# Altium schematic symbol library RcMPPTLib.SchLib: 72 symbols
Pins are listed as number, name and electrical type; pins without a type are passive.

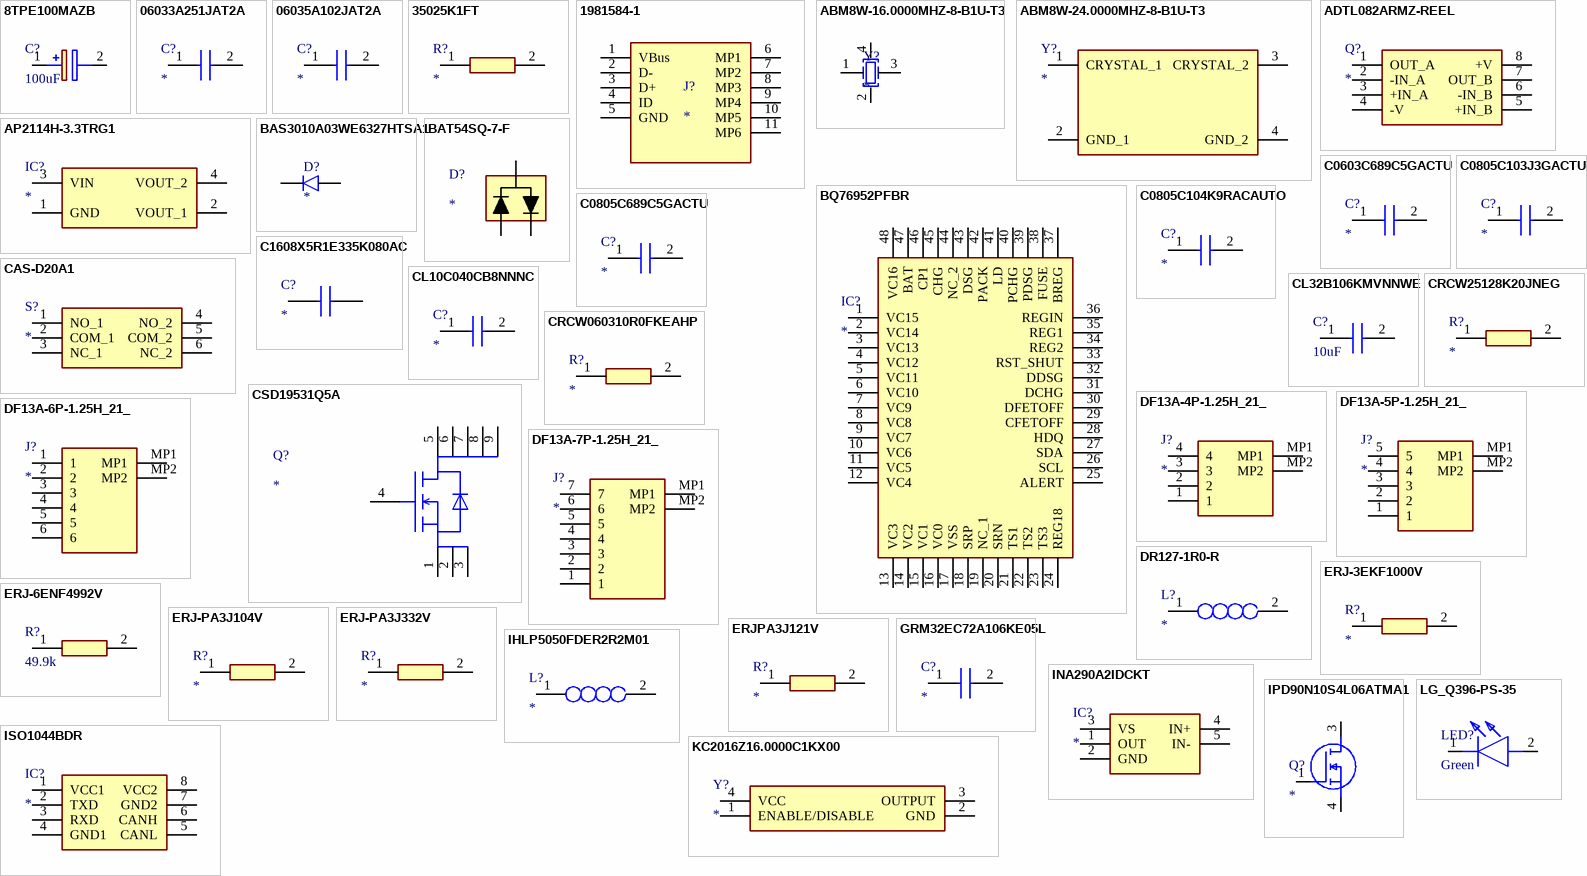
[diagram p0: symbols 8TPE100MAZB to LG_Q396-PS-35]

## 8TPE100MAZB
designator C?, comment 100uF
Capacitor Polarised; Manufacturer_Name: Panasonic; Manufacturer_Part_Number: 8TPE100MAZB; Datasheet Link: http://uk.rs-online.com/web/p/products/7887374; Height: 2mm; Arrow Part Number: 8TPE100MAZB; Arrow Price/Stock: https://www.arrow.com/en/products/8tpe100mazb/panasonic; Mouser Part Number: 667-8TPE100MAZB; Mouser Price/Stock: https://www.mouser.co.uk/ProductDetail/Panasonic/8TPE100MAZB?qs=OE1iw1LrrPHKTwwfsidxgA%3D%3D
footprint CAPPM3528X200N
pins: 1 +, 2 -

## 06033A251JAT2A
designator C?
Capacitor; Manufacturer_Name: AVX; Manufacturer_Part_Number: 06033A251JAT2A; Datasheet Link: https://componentsearchengine.com/Datasheets/1/06031A100FAT2A.pdf; Height: 0.9mm; Mouser Part Number: 581-06033A251JAT2A; Mouser Price/Stock: https://www.mouser.com/Search/Refine.aspx?Keyword=581-06033A251JAT2A
footprint CAPC1608X90N
pins: 1, 2

## 06035A102JAT2A
designator C?
Capacitor; Manufacturer_Name: AVX; Manufacturer_Part_Number: 06035A102JAT2A; Datasheet Link: http://datasheets.avx.com/C0GNP0-Dielectric.pdf; Height: 0.9mm; Mouser Part Number: 581-06035A102J; Mouser Price/Stock: https://www.mouser.co.uk/ProductDetail/AVX/06035A102JAT2A?qs=I5rfTV0A4wGLF2%252B95sWyMg%3D%3D; Arrow Part Number: 06035A102JAT2A; Arrow Price/Stock: https://www.arrow.com/en/products/06035a102jat2a/avx
footprint CAPC1608X90N
pins: 1, 2

## 35025K1FT
designator R?
Resistor; Manufacturer_Name: TE Connectivity; Manufacturer_Part_Number: 35025K1FT; Datasheet Link: https://componentsearchengine.com/Datasheets/2/35025K1FT.pdf; Height: 1.2mm; Mouser Part Number: 279-35025K1FT; Mouser Price/Stock: https://www.mouser.co.uk/ProductDetail/TE-Connectivity-CGS/35025K1FT?qs=gZXFycFWdAMaIId5apsrAA%3D%3D
footprint RESC5025X120N
pins: 1, 2

## 1981584-1
designator J?
Connector; Manufacturer_Name: TE Connectivity; Manufacturer_Part_Number: 1981584-1; Datasheet Link: http://www.te.com/commerce/DocumentDelivery/DDEController?Action=showdoc&DocId=Customer+Drawing%7F1981584%7FD2%7Fpdf%7FEnglish%7FENG_CD_1981584_D2.pdf%7F1981584-1; Height: 3mm; Arrow Part Number: 1981584-1; Arrow Price/Stock: https://www.arrow.com/en/products/1981584-1/te-connectivity; Mouser Part Number: 571-1981584-1; Mouser Price/Stock: https://www.mouser.co.uk/ProductDetail/TE-Connectivity/1981584-1?qs=ozkTL%2FUej0TLYxjQLPnd2Q%3D%3D
footprint 19815841
pins: 1 VBus, 2 D-, 3 D+, 4 ID, 5 GND, 6 MP1, 7 MP2, 8 MP3, 9 MP4, 10 MP5, 11 MP6

## ABM8W-16.0000MHZ-8-B1U-T3
designator Y?
Crystal or Oscillator; Manufacturer_Name: ABRACON; Manufacturer_Part_Number: ABM8W-16.0000MHZ-8-B1U-T3; Datasheet Link: https://abracon.com/Resonators/ABM8W.pdf; Height: 0.75mm; Mouser Part Number: 815-8W16-8B1UT; Mouser Price/Stock: https://www.mouser.co.uk/ProductDetail/ABRACON/ABM8W-160000MHZ-8-B1U-T3?qs=5aG0NVq1C4zuwTHNFUIcqw%3D%3D; Arrow Part Number: ABM8W-16.0000MHZ-8-B1U-T3; Arrow Price/Stock: https://www.arrow.com/en/products/abm8w-16.0000mhz-8-b1u-t3/abracon
footprint ABM8W160000MHZ8B1UT3
pins: 1 OSC1, 2 OSC2, 3, 4

## ABM8W-24.0000MHZ-8-B1U-T3
designator Y?
Crystal or Oscillator; Manufacturer_Name: ABRACON; Manufacturer_Part_Number: ABM8W-24.0000MHZ-8-B1U-T3; Datasheet Link: https://www.mouser.com/datasheet/2/3/ABM8W-1107617.pdf; Height: 0.75mm; Arrow Part Number: ABM8W-24.0000MHZ-8-B1U-T3; Arrow Price/Stock: https://www.arrow.com/en/products/abm8w-24.0000mhz-8-b1u-t3/abracon; Mouser Part Number: 815-8W24-8B1UT; Mouser Price/Stock: https://www.mouser.com/Search/Refine.aspx?Keyword=815-8W24-8B1UT
footprint ABM8W240000MHZ8B1UT3
pins: 1 CRYSTAL_1, 2 GND_1, 3 CRYSTAL_2, 4 GND_2

## ADTL082ARMZ-REEL
designator Q?
Transistor; Manufacturer_Name: Analog Devices; Manufacturer_Part_Number: ADTL082ARMZ-REEL; Datasheet Link: http://www.analog.com/en/products/amplifiers/operational-amplifiers/jfet-input-amplifiers/adtl082.html; Height: 1.1mm; Mouser Part Number: 584-ADTL082ARMZ-R; Mouser Price/Stock: https://www.mouser.co.uk/ProductDetail/Analog-Devices/ADTL082ARMZ-REEL?qs=WIvQP4zGangWep10KPxZ3g%3D%3D; Arrow Part Number: ADTL082ARMZ-REEL; Arrow Price/Stock: https://www.arrow.com/en/products/adtl082armz-reel/analog-devices
footprint SOP65P490X110-8N
pins: 1 OUT_A, 2 -IN_A, 3 +IN_A, 4 -V, 5 +IN_B, 6 -IN_B, 7 OUT_B, 8 +V

## AP2114H-3.3TRG1
designator IC?
Integrated Circuit; Manufacturer_Name: Diodes Inc.; Manufacturer_Part_Number: AP2114H-3.3TRG1; Datasheet Link: http://uk.rs-online.com/web/p/products/8283528; Height: 1.8mm; Arrow Part Number: AP2114H-3.3TRG1; Arrow Price/Stock: https://www.arrow.com/en/products/ap2114h-3.3trg1/diodes-incorporated; Mouser Part Number: 621-AP2114H-3.3TRG1; Mouser Price/Stock: https://www.mouser.co.uk/ProductDetail/Diodes-Incorporated/AP2114H-33TRG1?qs=x6A8l6qLYDDSG%2FfwzcsOhw%3D%3D
footprint SOT230P700X180-4N
pins: 1 GND, 2 VOUT_1, 3 VIN, 4 VOUT_2

## BAS3010A03WE6327HTSA1
designator D?
Diode; Manufacturer_Name: Infineon; Manufacturer_Part_Number: BAS3010A03WE6327HTSA1; Datasheet Link: https://www.infineon.com/dgdl/Infineon-BAS3010ASERIES-DS-v01_01-en.pdf?fileId=db3a30431ddc9372011dfbc50f231c06; Height: 1.1mm; Arrow Part Number: BAS3010A03WE6327HTSA1; Arrow Price/Stock: https://www.arrow.com/en/products/bas3010a03we6327htsa1/infineon-technologies-ag; Mouser Part Number: 726-BAS3010A-03WE6; Mouser Price/Stock: https://www.mouser.co.uk/ProductDetail/Infineon-Technologies/BAS3010A03WE6327HTSA1?qs=K00xGehIljtEbk1%252B2pLZ%252BQ%3D%3D
footprint SOD2513X110N
pins: 1 K, 2 A

## BAT54SQ-7-F
designator D?
Schottky Diode; Manufacturer_Name: Diodes Inc.; Manufacturer_Part_Number: BAT54SQ-7-F; Datasheet Link: https://www.arrow.com/en/products/bat54sq-7-f/diodes-incorporated; Height: 1.1mm; Mouser Part Number: 621-BAT54SQ-7-F; Mouser Price/Stock: https://www.mouser.co.uk/ProductDetail/Diodes-Incorporated/BAT54SQ-7-F/?qs=vdQOMtKMWaAKaYcjx11stw%3D%3D; Arrow Part Number: BAT54SQ-7-F; Arrow Price/Stock: https://www.arrow.com/en/products/bat54sq-7-f/diodes-incorporated
footprint SOT96P240X110-3N
pins: 1 A, 2 K, 3 A/K

## BQ76952PFBR
designator IC?
Integrated Circuit; Manufacturer_Name: Texas Instruments; Manufacturer_Part_Number: BQ76952PFBR; Datasheet Link: https://www.ti.com/lit/ds/symlink/bq76952.pdf?ts=1602524050348&ref_url=https%253A%252F%252Fwww.ti.com%252Fproduct%252FBQ76952%253FkeyMatch%253DBQ76952PFBR%2526tisearch%253DSearch-EN-everything%2526usecase%253DOPN; Height: 1.2mm
footprint QFP50P900X900X120-48N
pins: 1 VC15, 2 VC14, 3 VC13, 4 VC12, 5 VC11, 6 VC10, 7 VC9, 8 VC8, 9 VC7, 10 VC6, 11 VC5, 12 VC4, 13 VC3, 14 VC2, 15 VC1, 16 VC0, 17 VSS, 18 SRP, 19 NC_1, 20 SRN, 21 TS1, 22 TS2, 23 TS3, 24 REG18, 25 ALERT, 26 SCL, 27 SDA, 28 HDQ, 29 CFETOFF, 30 DFETOFF, 31 DCHG, 32 DDSG, 33 RST_SHUT, 34 REG2, 35 REG1, 36 REGIN, 37 BREG, 38 FUSE, 39 PDSG, 40 PCHG, 41 LD, 42 PACK, 43 DSG, 44 NC_2, 45 CHG, 46 CP1, 47 BAT, 48 VC16

## C0603C689C5GACTU
designator C?
Capacitor; Manufacturer_Name: Kemet; Manufacturer_Part_Number: C0603C689C5GACTU; Datasheet Link: http://docs-emea.rs-online.com/webdocs/116e/0900766b8116eaf8.pdf; Height: 0.87mm; Arrow Part Number: C0603C689C5GACTU; Arrow Price/Stock: https://www.arrow.com/en/products/c0603c689c5gactu/kemet-corporation; Mouser Part Number: 80-C0603C689C5G; Mouser Price/Stock: https://www.mouser.com/Search/Refine.aspx?Keyword=80-C0603C689C5G
footprint CAPC1608X87N
pins: 1, 2

## C0805C103J3GACTU
designator C?
Capacitor; Manufacturer_Name: Kemet; Manufacturer_Part_Number: C0805C103J3GACTU; Datasheet Link: https://componentsearchengine.com/Datasheets/2/C0805C103J3GACTU.pdf; Height: 0.88mm; Arrow Part Number: C0805C103J3GACTU; Arrow Price/Stock: https://www.arrow.com/en/products/c0805c103j3gactu/kemet-corporation; Mouser Part Number: 80-C0805C103J3G; Mouser Price/Stock: https://www.mouser.co.uk/ProductDetail/KEMET/C0805C103J3GACTU?qs=K%2Fj%2Fqf%252B0fqJFcB%2FiaHub0Q%3D%3D
footprint CAPC2012X88N
pins: 1, 2

## C0805C104K9RACAUTO
designator C?
Capacitor; Manufacturer_Name: Kemet; Manufacturer_Part_Number: C0805C104K9RACAUTO; Datasheet Link: https://componentsearchengine.com/Datasheets/2/C0805C104K9RACAUTO.pdf; Height: 0.88mm; Mouser Part Number: 80-C0805C104K9RAUTO; Mouser Price/Stock: https://www.mouser.co.uk/ProductDetail/KEMET/C0805C104K9RACAUTO?qs=ds50AKTGxA84SWre%252BvImOA%3D%3D
footprint CAPC2012X88N
pins: 1, 2

## C0805C689C5GACTU
designator C?
Capacitor; Manufacturer_Name: Kemet; Manufacturer_Part_Number: C0805C689C5GACTU; Datasheet Link: https://componentsearchengine.com/Datasheets/2/C0805C689C5GACTU.pdf; Height: 0.88mm; Mouser Part Number: 80-C0805C689C5G; Mouser Price/Stock: http://www.mouser.com/Search/ProductDetail.aspx?qs=fv3J57pV3hEGoIltx5b3yA%3d%3d
footprint CAPC2012X88N
pins: 1, 2

## C1608X5R1E335K080AC
designator C?
Capacitor; Manufacturer_Name: TDK; Manufacturer_Part_Number: C1608X5R1E335K080AC; Datasheet Link: https://product.tdk.com/info/en/catalog/datasheets/mlcc_commercial_midvoltage_en.pdf; Height: 0.9mm; Arrow Part Number: C1608X5R1E335K080AC; Arrow Price/Stock: https://www.arrow.com/en/products/c1608x5r1e335k080ac/tdk; Mouser Part Number: 810-C1608X5R1E335KAC; Mouser Price/Stock: https://www.mouser.com/Search/Refine.aspx?Keyword=810-C1608X5R1E335KAC
footprint CAPC1608X90N
pins: 1, 2

## CAS-D20A1
designator S?
Switch; Manufacturer_Name: Copal Electronics; Manufacturer_Part_Number: CAS-D20A1; Datasheet Link: https://www.nidec-copal-electronics.com/e/catalog/switch/cas.pdf; Height: 2.5mm
footprint CASD20A1
pins: 1 NO_1, 2 COM_1, 3 NC_1, 4 NO_2, 5 COM_2, 6 NC_2

## CL10C040CB8NNNC
designator C?
Capacitor; Manufacturer_Name: Samsung Electro-Mechanics; Manufacturer_Part_Number: CL10C040CB8NNNC; Datasheet Link: https://datasheet.lcsc.com/szlcsc/Samsung-Electro-Mechanics-CL10C040CB8NNNC_C307494.pdf; Height: 0.9mm; Mouser Part Number: N/A; Mouser Price/Stock: https://www.mouser.co.uk/ProductDetail/Samsung-Electro-Mechanics/CL10C040CB8NNNC?qs=X6jEic%2FHinCXvSxHicvHqA%3D%3D; Arrow Part Number: CL10C040CB8NNNC; Arrow Price/Stock: https://www.arrow.com/en/products/cl10c040cb8nnnc/samsung-electro-mechanics
footprint CAPC1608X90N
pins: 1, 2

## CL32B106KMVNNWE
designator C?, comment 10uF
Capacitor; Manufacturer_Name: Samsung Electro-Mechanics; Manufacturer_Part_Number: CL32B106KMVNNWE; Datasheet Link: https://www.arrow.com/en/products/cl32b106kmvnnwe/samsung-electro-mechanics; Height: 2.8mm; Arrow Part Number: CL32B106KMVNNWE; Arrow Price/Stock: https://www.arrow.com/en/products/cl32b106kmvnnwe/samsung-electro-mechanics; Mouser Part Number: N/A; Mouser Price/Stock: https://www.mouser.co.uk/ProductDetail/Samsung-Electro-Mechanics/CL32B106KMVNNWE?qs=xZ%2FP%252Ba9zWqaEMBbSgKy8gQ%3D%3D
footprint CAPC3225X280N
pins: 1, 2

## CRCW25128K20JNEG
designator R?
Resistor; Manufacturer_Name: Vishay; Manufacturer_Part_Number: CRCW25128K20JNEG; Datasheet Link: http://www.vishay.com/docs/20035/dcrcwe3.pdf; Height: 0.7mm; Mouser Part Number: 71-CRCW2512J-8.2K-E3; Mouser Price/Stock: http://www.mouser.com/Search/ProductDetail.aspx?qs=Zz5LZibkobV4P8RKYh%2frLA%3d%3d
footprint RESC6332X70N
pins: 1, 2

## CRCW060310R0FKEAHP
designator R?
Resistor; Manufacturer_Name: Vishay; Manufacturer_Part_Number: CRCW060310R0FKEAHP; Datasheet Link: http://www.farnell.com/datasheets/1885357.pdf; Height: 0.5mm; Mouser Part Number: 71-CRCW060310R0FKEAH; Mouser Price/Stock: https://www.mouser.co.uk/ProductDetail/Vishay-Dale/CRCW060310R0FKEAHP?qs=k2%2FDWSARqgHKJ7AdmQKyZw%3D%3D; Arrow Part Number: CRCW060310R0FKEAHP; Arrow Price/Stock: https://www.arrow.com/en/products/crcw060310r0fkeahp/vishay
footprint RESC1608X50N
pins: 1, 2

## CSD19531Q5A
designator Q?
MOSFET (N-Channel); Manufacturer_Name: Texas Instruments; Manufacturer_Part_Number: CSD19531Q5A; Datasheet Link: http://www.ti.com/lit/gpn/csd19531q5a; Height: 1.1mm; Arrow Part Number: CSD19531Q5A; Arrow Price/Stock: https://www.arrow.com/en/products/csd19531q5a/texas-instruments; Mouser Part Number: 595-CSD19531Q5A; Mouser Price/Stock: https://www.mouser.co.uk/ProductDetail/Texas-Instruments/CSD19531Q5A?qs=igp4D3uu33JEBn6BQL7S%2Fw%3D%3D
footprint CSD19531Q5A
pins: 1 S_1, 2 S_2, 3 S_3, 4 G, 5 D_1, 6 D_2, 7 D_3, 8 D_4, 9 D_5

## DF13A-4P-1.25H_21_
designator J?
Connector; Manufacturer_Name: Hirose; Manufacturer_Part_Number: DF13A-4P-1.25H(21); Datasheet Link: https://componentsearchengine.com/Datasheets/1/DF13A-4P-1.25H(21).pdf; Height: 3.6mm; Mouser Part Number: 798-DF13A4P125H21; Mouser Price/Stock: https://www.mouser.co.uk/ProductDetail/Hirose-Connector/DF13A-4P-125H21?qs=XQjbzJWzFPXWzMShI70F0w%3D%3D
footprint DF13A4P125H21
pins: 1, 2, 3, 4, MP1, MP2

## DF13A-5P-1.25H_21_
designator J?
Connector; Manufacturer_Name: Hirose; Manufacturer_Part_Number: DF13A-5P-1.25H(21); Datasheet Link: https://componentsearchengine.com/Datasheets/1/DF13A-5P-1.25H(21).pdf; Height: 3.75mm; Mouser Part Number: 798-DF13A5P125H21; Mouser Price/Stock: https://www.mouser.co.uk/ProductDetail/Hirose-Connector/DF13A-5P-125H21?qs=XQjbzJWzFPWvJsE2o%252B4Q8Q%3D%3D
footprint DF13A5P125H21
pins: 1, 2, 3, 4, 5, MP1, MP2

## DF13A-6P-1.25H_21_
designator J?
Connector; Manufacturer_Name: Hirose; Manufacturer_Part_Number: DF13A-6P-1.25H(21); Description: Hirose DF13 Series; Datasheet Link: https://www.hirose.com/product/download/?distributor=digikey&type=2d&lang=en&num=DF13A-6P-1.25H(21); Height: 3.75mm; Mouser Part Number: 798-DF13A6P125H21; Mouser Price/Stock: https://www.mouser.co.uk/ProductDetail/Hirose-Connector/DF13A-6P-125H21?qs=XQjbzJWzFPXnreVi%252BPl0Lg%3D%3D; Arrow Part Number: DF13A-6P-1.25H(21); Arrow Price/Stock: https://www.arrow.com/en/products/df13a-6p-1.25h-21/hirose-electric
footprint DF13A6P125H21
pins: 1, 2, 3, 4, 5, 6, MP1, MP2

## DF13A-7P-1.25H_21_
designator J?
Connector; Manufacturer_Name: Hirose; Manufacturer_Part_Number: DF13A-7P-1.25H(21); Datasheet Link: https://www.hirose.com/product/download/?distributor=digikey&type=specSheet&lang=en&num=DF13A-7P-1.25H(21); Height: 3.75mm; Mouser Part Number: 798-DF13A7P125H21; Mouser Price/Stock: https://www.mouser.co.uk/ProductDetail/Hirose-Connector/DF13A-7P-125H21?qs=XQjbzJWzFPUwUyBUPiS%2FgA%3D%3D
footprint DF13A7P125H21
pins: 1, 2, 3, 4, 5, 6, 7, MP1, MP2

## DR127-1R0-R
designator L?
Inductor; Manufacturer_Name: Eaton; Manufacturer_Part_Number: DR127-1R0-R; Datasheet Link: https://www.arrow.com/en/products/dr127-1r0-r/eaton; Height: 8mm; Arrow Part Number: DR127-1R0-R; Arrow Price/Stock: https://www.arrow.com/en/products/dr127-1r0-r/eaton; Mouser Part Number: 704-DR127-1R0-R; Mouser Price/Stock: https://www.mouser.co.uk/ProductDetail/Coiltronics-Eaton/DR127-1R0-R?qs=yzwxPInThYTgweNwZsVQUA%3D%3D
footprint INDPM125125X800N
pins: 1, 2

## ERJ-3EKF1000V
designator R?
Resistor; Manufacturer_Name: Panasonic; Manufacturer_Part_Number: ERJ-3EKF1000V; Datasheet Link: http://industrial.panasonic.com/cdbs/www-data/pdf/RDA0000/AOA0000C86.pdf; Height: 0.55mm; Mouser Part Number: 667-ERJ-3EKF1000V; Mouser Price/Stock: https://www.mouser.co.uk/ProductDetail/Panasonic/ERJ-3EKF1000V/?qs=H7k1u0Mp9JS7i8KGO5m47A%3D%3D; Arrow Part Number: ERJ-3EKF1000V; Arrow Price/Stock: https://www.arrow.com/en/products/erj-3ekf1000v/panasonic
footprint RESC1608X55N
pins: 1, 2

## ERJ-6ENF4992V
designator R?, comment 49.9k
Resistor; Manufacturer_Name: Panasonic; Manufacturer_Part_Number: ERJ-6ENF4992V; Datasheet Link: https://industrial.panasonic.com/cdbs/www-data/pdf/RDA0000/AOA0000C84.pdf; Height: 0.7mm; Mouser Part Number: 667-ERJ-6ENF4992V; Mouser Price/Stock: https://www.mouser.com/Search/Refine.aspx?Keyword=667-ERJ-6ENF4992V
footprint R0805
pins: 1, 2

## ERJ-PA3J104V
designator R?
Resistor; Manufacturer_Name: Panasonic; Manufacturer_Part_Number: ERJ-PA3J104V; Datasheet Link: https://industrial.panasonic.com/cdbs/www-data/pdf/RDA0000/AOA0000C243.pdf; Height: 0.55mm; Mouser Part Number: 667-ERJ-PA3J104V; Mouser Price/Stock: https://www.mouser.com/Search/Refine.aspx?Keyword=667-ERJ-PA3J104V; Arrow Part Number: ERJ-PA3J104V; Arrow Price/Stock: https://www.arrow.com/en/products/erj-pa3j104v/panasonic
footprint RESC1608X55N
pins: 1, 2

## ERJ-PA3J332V
designator R?
Resistor; Manufacturer_Name: Panasonic; Manufacturer_Part_Number: ERJ-PA3J332V; Datasheet Link: https://industrial.panasonic.com/cdbs/www-data/pdf/RDO0000/AOA0000C331.pdf; Height: 0.55mm; Mouser Part Number: 667-ERJ-PA3J332V; Mouser Price/Stock: https://www.mouser.co.uk/ProductDetail/Panasonic/ERJ-PA3J332V?qs=BzJM0faLVqUb4RD3AQ1dMg%3D%3D
footprint RESC1608X55N
pins: 1, 2

## ERJPA3J121V
designator R?
Resistor; Manufacturer_Name: Panasonic; Manufacturer_Part_Number: ERJPA3J121V; Datasheet Link: https://industrial.panasonic.com/cdbs/www-data/pdf/RDA0000/AOA0000C243.pdf; Height: 0.55mm
footprint RESC1608X55N
pins: 1, 2

## GRM32EC72A106KE05L
designator C?
Capacitor; Manufacturer_Name: Murata Electronics; Manufacturer_Part_Number: GRM32EC72A106KE05L; Datasheet Link: http://psearch.en.murata.com/capacitor/product/GRM32ER71E226KE15%23.pdf; Height: 2.7mm; Mouser Part Number: 81-GRM32EC72A106KE05; Mouser Price/Stock: https://www.mouser.co.uk/ProductDetail/Murata-Electronics/GRM32EC72A106KE05L?qs=5aG0NVq1C4yOgpL0%2FICNsw%3D%3D; Arrow Part Number: GRM32EC72A106KE05L; Arrow Price/Stock: https://www.arrow.com/en/products/grm32ec72a106ke05l/murata-manufacturing
footprint CAPC3225X270N
pins: 1, 2

## IHLP5050FDER2R2M01
designator L?
Inductor; Manufacturer_Name: Vishay; Manufacturer_Part_Number: IHLP5050FDER2R2M01; Datasheet Link: http://uk.rs-online.com/web/p/products/7487448P; Height: 6.5mm; Mouser Part Number: 70-IHLP5050FDER2R2M1; Mouser Price/Stock: https://www.mouser.co.uk/ProductDetail/Vishay-Dale/IHLP5050FDER2R2M01?qs=bGpylJ3EYaCbgSSjAcbJVQ%3D%3D; Arrow Part Number: IHLP5050FDER2R2M01; Arrow Price/Stock: https://www.arrow.com/en/products/ihlp5050fder2r2m01/vishay
footprint INDPM132129X650N
pins: 1, 2

## INA290A2IDCKT
designator IC?
Integrated Circuit; Manufacturer_Name: Texas Instruments; Manufacturer_Part_Number: INA290A2IDCKT; Datasheet Link: https://www.ti.com/lit/ds/symlink/ina290.pdf?ts=1605766072094&ref_url=https%253A%252F%252Fwww.ti.com%252Fstore%252Fti%252Fen%252Fp%252Fproduct%252F%253Fp%253DINA290A2IDCKT; Height: 1.1mm; Mouser Part Number: 595-INA290A2IDCKT; Mouser Price/Stock: https://www.mouser.co.uk/ProductDetail/Texas-Instruments/INA290A2IDCKT/?qs=sPbYRqrBIVkkx%2FoqcXF%2FVw%3D%3D
footprint SOT65P210X110-5N
pins: 1 OUT, 2 GND, 3 VS, 4 IN+, 5 IN-

## IPD90N10S4L06ATMA1
designator Q?
MOSFET (N-Channel); Manufacturer_Name: Infineon; Manufacturer_Part_Number: IPD90N10S4L06ATMA1; Datasheet Link: https://www.infineon.com/dgdl/Infineon-IPD90N10S4L_06-DS-v01_00-en.pdf?fileId=db3a3043372d5cc80137500063630512; Height: 2mm; Arrow Part Number: IPD90N10S4L06ATMA1; Arrow Price/Stock: https://www.arrow.com/en/products/ipd90n10s4l06atma1/infineon-technologies-ag; Mouser Part Number: 726-IPD90N10S4L06ATM; Mouser Price/Stock: https://www.mouser.co.uk/ProductDetail/Infineon-Technologies/IPD90N10S4L06ATMA1?qs=LxJ0xX%2FWJR62lwU%2FrihEDA%3D%3D
footprint IPD90N10S4L06ATMA1
pins: 1 G, 3 D, 4 S

## ISO1044BDR
designator IC?
Integrated Circuit; Manufacturer_Name: Texas Instruments; Manufacturer_Part_Number: ISO1044BDR; Datasheet Link: http://www.ti.com/lit/gpn/iso1044?HQS=ti-null-null-sf-df-pf-sep-wwe&DCM=yes; Height: 1.75mm; Mouser Part Number: 595-ISO1044BDR; Mouser Price/Stock: https://www.mouser.co.uk/ProductDetail/Texas-Instruments/ISO1044BDR/?qs=DuoOggApuK9UGD9QQWYeTA%3D%3D
footprint SOIC127P600X175-8N
pins: 1 VCC1, 2 TXD, 3 RXD, 4 GND1, 5 CANL, 6 CANH, 7 GND2, 8 VCC2

## KC2016Z16.0000C1KX00
designator Y?
Crystal or Oscillator; Manufacturer_Name: KYOCERA; Manufacturer_Part_Number: KC2016Z16.0000C1KX00; Datasheet Link: https://www.mouser.com/datasheet/2/909/avx_07132018_TNY1T-H1-18041-00_Mouser_KC2016Zxxxxx-1381225.pdf; Height: 1mm; Mouser Part Number: 581-KC2016Z160C1KX00
footprint KC2016Z160000C1KX00
pins: 1 ENABLE/DISABLE, 2 GND, 3 OUTPUT, 4 VCC

## LG_Q396-PS-35
designator LED?, comment Green
LED; Manufacturer_Name: OSRAM; Manufacturer_Part_Number: LG Q396-PS-35; Datasheet Link: https://mouser.componentsearchengine.com/Datasheets/2/LG%20Q396-PS-35.pdf; Height: 0.4mm; Arrow Part Number: LG Q396-PS-35; Arrow Price/Stock: https://www.arrow.com/en/products/lgq396-ps-35/osram-opto-semiconductors; Mouser Part Number: 720-LGQ396A3964; Mouser Price/Stock: https://www.mouser.co.uk/ProductDetail/OSRAM-Opto-Semiconductors/LG-Q396-PS-35?qs=xC%252BE9h5iuX5%252BCocujXxOpw%3D%3D
footprint LGQ396PS35
pins: 1 K, 2 A

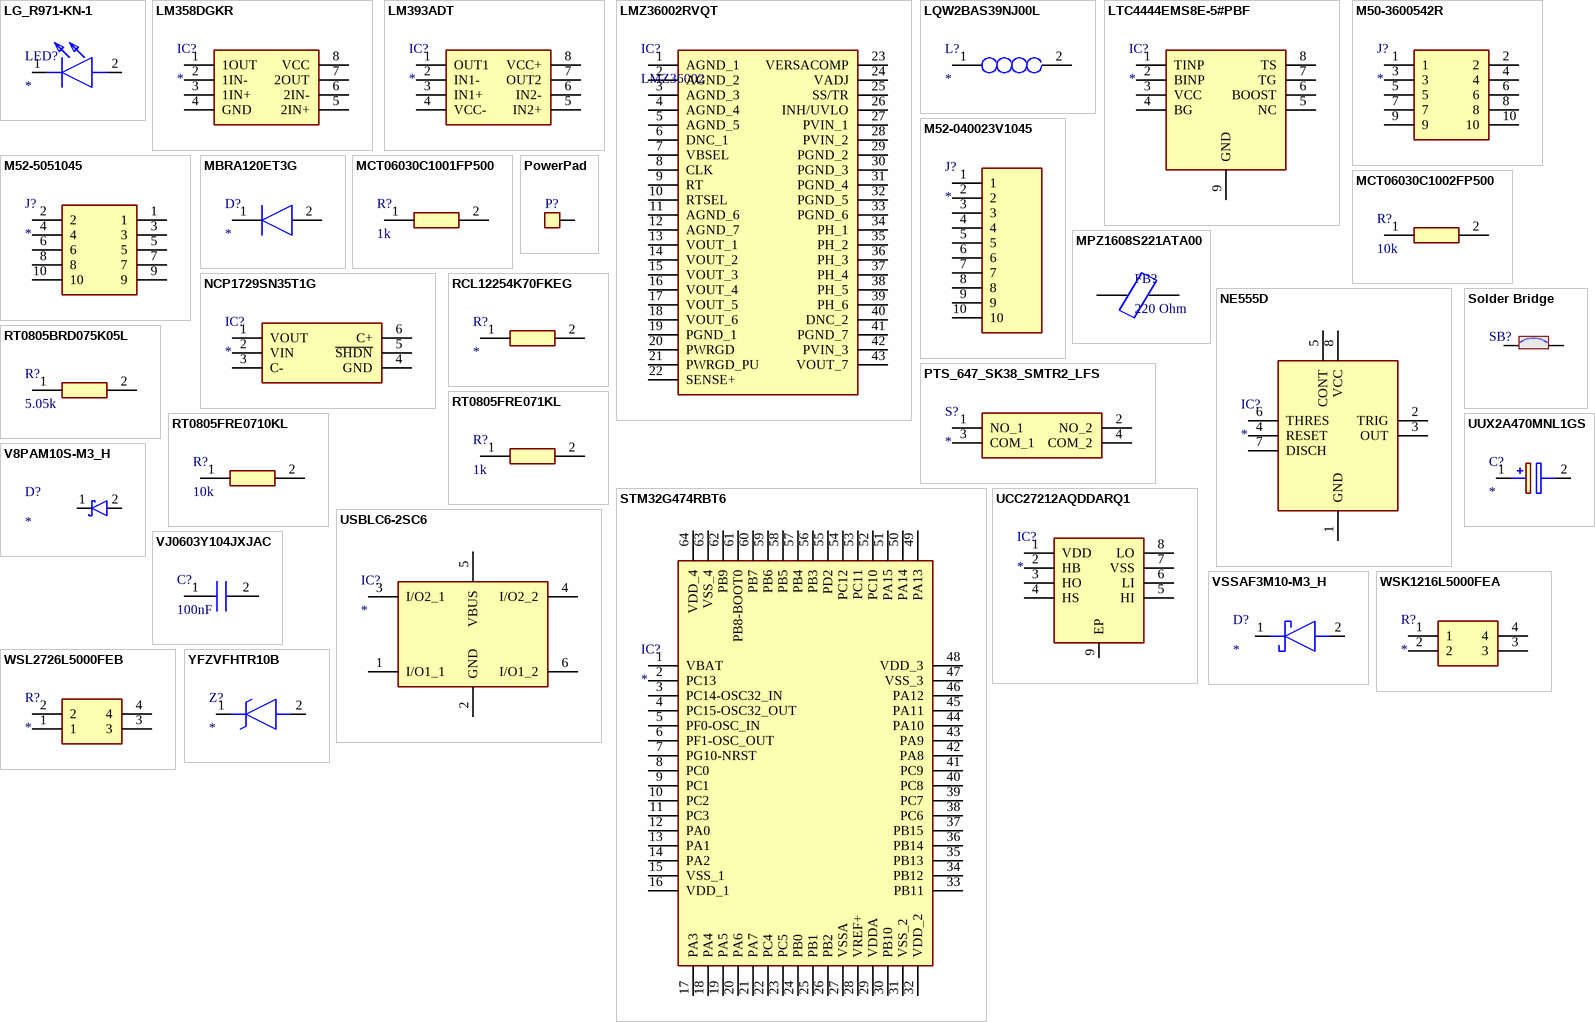
[diagram p1: symbols LG_R971-KN-1 to YFZVFHTR10B]

## LG_R971-KN-1
designator LED?
LED; Manufacturer_Name: OSRAM; Manufacturer_Part_Number: LG R971-KN-1; Datasheet Link: http://www.mouser.com/ds/2/311/LG R971 - CHIPLED 0805-318376.pdf; Height: 0.8mm; Arrow Part Number: LG R971-KN-1; Arrow Price/Stock: https://www.arrow.com/en/products/lgr971-kn-1/osram-opto-semiconductors; Mouser Part Number: 720-LGR971-KN-1; Mouser Price/Stock: https://www.mouser.co.uk/ProductDetail/OSRAM-Opto-Semiconductors/LG-R971-KN-1?qs=LsPilcdHE7EX1EB7GCLHxg%3D%3D
footprint LEDC2012X80N
pins: 1 K, 2 A

## LM358DGKR
designator IC?
Integrated Circuit; Manufacturer_Name: Texas Instruments; Manufacturer_Part_Number: LM358DGKR; Datasheet Link: http://www.ti.com/lit/gpn/lm358; Height: 1.1mm; Mouser Part Number: 595-LM358DGKR; Mouser Price/Stock: https://www.mouser.co.uk/ProductDetail/Texas-Instruments/LM358DGKR?qs=VBduBm9rCJQpfL21a%2FCtGg%3D%3D; Arrow Part Number: LM358DGKR; Arrow Price/Stock: https://www.arrow.com/en/products/lm358dgkr/texas-instruments
footprint SOP65P490X110-8N
pins: 1 1OUT, 2 1IN-, 3 1IN+, 4 GND, 5 2IN+, 6 2IN-, 7 2OUT, 8 VCC

## LM393ADT
designator IC?
Integrated Circuit; Manufacturer_Name: STMicroelectronics; Manufacturer_Part_Number: LM393ADT; Datasheet Link: http://www.st.com/content/ccc/resource/technical/document/datasheet/group1/b4/cc/cf/13/18/28/44/f5/CD00000465/files/CD00000465.pdf/jcr:content/translations/en.CD00000465.pdf; Height: 1.75mm; Mouser Part Number: 511-LM393ADT; Mouser Price/Stock: https://www.mouser.co.uk/ProductDetail/STMicroelectronics/LM393ADT?qs=4oUBHTJ%2FEmCrGucW6AMKWw%3D%3D; Arrow Part Number: LM393ADT; Arrow Price/Stock: https://www.arrow.com/en/products/lm393adt/stmicroelectronics
footprint SOIC127P600X175-8N
pins: 1 OUT1, 2 IN1-, 3 IN1+, 4 VCC-, 5 IN2+, 6 IN2-, 7 OUT2, 8 VCC+

## LMZ36002RVQT
designator IC?, comment LMZ36002
Integrated Circuit; Manufacturer_Name: Texas Instruments; Manufacturer_Part_Number: LMZ36002RVQT; Datasheet Link: http://www.ti.com/lit/gpn/lmz36002; Height: 2.13mm; Arrow Part Number: LMZ36002RVQT; Arrow Price/Stock: https://www.arrow.com/en/products/lmz36002rvqt/texas-instruments; Mouser Part Number: 595-LMZ36002RVQT; Mouser Price/Stock: https://www.mouser.co.uk/ProductDetail/Texas-Instruments/LMZ36002RVQT?qs=kFLL9AfgRSBjXTxBMSjGOw%3D%3D
footprint LMZ36002RVQR
pins: 1 AGND_1, 2 AGND_2, 3 AGND_3, 4 AGND_4, 5 AGND_5, 6 DNC_1, 7 VBSEL, 8 CLK, 9 RT, 10 RTSEL, 11 AGND_6, 12 AGND_7, 13 VOUT_1, 14 VOUT_2, 15 VOUT_3, 16 VOUT_4, 17 VOUT_5, 18 VOUT_6, 19 PGND_1, 20 PWRGD, 21 PWRGD_PU, 22 SENSE+, 23 VERSACOMP, 24 VADJ, 25 SS/TR, 26 INH/UVLO, 27 PVIN_1, 28 PVIN_2, 29 PGND_2, 30 PGND_3, 31 PGND_4, 32 PGND_5, 33 PGND_6, 34 PH_1, 35 PH_2, 36 PH_3, 37 PH_4, 38 PH_5, 39 PH_6, 40 DNC_2, 41 PGND_7, 42 PVIN_3, 43 VOUT_7

## LQW2BAS39NJ00L
designator L?
Inductor; Manufacturer_Name: Murata Electronics; Manufacturer_Part_Number: LQW2BAS39NJ00L; Datasheet Link: https://psearch.en.murata.com/inductor/product/LQW2BAS39NJ00%23.html; Height: 1.52mm
footprint LQW2BAN11NG00L
pins: 1, 2

## LTC4444EMS8E-5#PBF
designator IC?
Integrated Circuit; Manufacturer_Name: Linear Technology; Manufacturer_Part_Number: LTC4444EMS8E-5#PBF; Datasheet Link: http://www.linear.com/docs/26366; Height: 1.1mm; Arrow Part Number: LTC4444EMS8E-5#PBF; Arrow Price/Stock: https://www.arrow.com/en/products/ltc4444ems8e-5pbf/linear-technology; Mouser Part Number: 584-C4444EMS8E-5PBF; Mouser Price/Stock: https://www.mouser.com/Search/Refine.aspx?Keyword=584-C4444EMS8E-5PBF
footprint SOP65P490X110-9N
pins: 1 TINP, 2 BINP, 3 VCC, 4 BG, 5 NC, 6 BOOST, 7 TG, 8 TS, 9 GND

## M50-3600542R
designator J?
Connector; Manufacturer_Name: Harwin; Manufacturer_Part_Number: M50-3600542R; Datasheet Link: https://cdn.harwin.com/pdfs/M50-360R.pdf; Mouser Part Number: 855-M50-3600542R; Mouser Price/Stock: https://www.mouser.co.uk/ProductDetail/Harwin/M50-3600542R?qs=DVxm2sPGGrrPu%2FxuhpV3yw%3D%3D
footprint HUSSP10W40P127_2X5_635X340X420P
pins: 1, 2, 3, 4, 5, 6, 7, 8, 9, 10

## M52-040023V1045
designator J?
Connector; Manufacturer_Name: Harwin; Manufacturer_Part_Number: M52-040023V1045; Datasheet Link: https://componentsearchengine.com/Datasheets/2/M52-040023V1045.pdf; Height: 2.5mm; Mouser Part Number: 855-M52-040023V1045; Mouser Price/Stock: https://www.mouser.co.uk/ProductDetail/Harwin/M52-040023V1045?qs=wuXwK9wHm9uI6z1%2FRhsKmg%3D%3D
footprint HDRV10W60P0X127_1X10_1270X250X250P
pins: 1, 2, 3, 4, 5, 6, 7, 8, 9, 10

## M52-5051045
designator J?
Connector; Manufacturer_Name: Harwin; Manufacturer_Part_Number: M52-5051045; Datasheet Link: https://cdn.harwin.com/pdfs/M52-505.pdf; Height: 5.7mm; Mouser Part Number: 855-M52-5051045; Mouser Price/Stock: https://www.mouser.co.uk/ProductDetail/Harwin/M52-5051045?qs=Jph8NoUxIfVdgQJihAwiug%3D%3D
footprint M525051045
pins: 1, 2, 3, 4, 5, 6, 7, 8, 9, 10

## MBRA120ET3G
designator D?
Diode; Manufacturer_Name: ON Semiconductor; Manufacturer_Part_Number: MBRA120ET3G; Datasheet Link: http://www.onsemi.com/pub/Collateral/MBRA120ET3-D.PDF; Height: 2.2mm; Arrow Part Number: MBRA120ET3G; Arrow Price/Stock: https://www.arrow.com/en/products/mbra120et3g/on-semiconductor; Mouser Part Number: 863-MBRA120ET3G; Mouser Price/Stock: https://www.mouser.co.uk/ProductDetail/ON-Semiconductor/MBRA120ET3G?qs=3JMERSakebpxyEF0miqDLQ%3D%3D
footprint DIOM5226X220N
pins: 1 K, 2 A

## MCT06030C1001FP500
designator R?, comment 1k
Resistor; Manufacturer_Name: Vishay; Manufacturer_Part_Number: MCT06030C1001FP500; Datasheet Link: http://www.vishay.com/docs/28705/mcx0x0xpro.pdf; Height: 0.55mm; Mouser Part Number: 594-MCT06030C1001FP5; Mouser Price/Stock: https://www.mouser.co.uk/ProductDetail/Vishay-Beyschlag/MCT06030C1001FP500?qs=7ZE6F4QMOBbsjeUdqW8cwA%3D%3D
footprint RESC1608X55N
pins: 1, 2

## MCT06030C1002FP500
designator R?, comment 10k
Resistor; Manufacturer_Name: Vishay; Manufacturer_Part_Number: MCT06030C1002FP500; Datasheet Link: http://www.vishay.com/docs/28705/mcx0x0xpro.pdf; Height: 0.55mm; Mouser Part Number: 594-MCT06030C1002FP5; Mouser Price/Stock: https://www.mouser.co.uk/ProductDetail/Vishay-Beyschlag/MCT06030C1002FP500?qs=Wvg1umJc15zoHgIjwqoGHw%3D%3D
footprint RESC1608X55N
pins: 1, 2

## MPZ1608S221ATA00
designator FB?, comment 220 Ohm
Ferrite Bead; Manufacturer_Name: TDK; Manufacturer_Part_Number: MPZ1608S221ATA00; Datasheet Link: https://product.tdk.com/info/en/catalog/datasheets/beads_commercial_power_mpz1608_en.pdf; Height: 0.75mm; Mouser Part Number: 810-MPZ1608S221ATA00; Mouser Price/Stock: https://www.mouser.co.uk/ProductDetail/TDK/MPZ1608S221ATA00/?qs=pLY5GE0xrmLZeKkazChaNg%3D%3D; Arrow Part Number: MPZ1608S221ATA00; Arrow Price/Stock: https://www.arrow.com/en/products/mpz1608s221ata00/tdk
footprint BEADC1608X75N
pins: 1, 2

## NCP1729SN35T1G
designator IC?
Integrated Circuit; Manufacturer_Name: ON Semiconductor; Manufacturer_Part_Number: NCP1729SN35T1G; Datasheet Link: http://www.onsemi.com/pub/Collateral/NCP1729-D.PDF; Height: 1.1mm; Arrow Part Number: NCP1729SN35T1G; Arrow Price/Stock: https://www.arrow.com/en/products/ncp1729sn35t1g/on-semiconductor; Mouser Part Number: 863-NCP1729SN35T1G; Mouser Price/Stock: https://www.mouser.co.uk/ProductDetail/ON-Semiconductor/NCP1729SN35T1G?qs=%2FugrpAKHX8pjfXPiRUErOw%3D%3D
footprint SOT105P275X110-6N
pins: 1 VOUT, 2 VIN, 3 C-, 4 GND, 5 ~{SHDN}, 6 C+

## NE555D
designator IC?
Integrated Circuit; Manufacturer_Name: Texas Instruments; Manufacturer_Part_Number: NE555D; Datasheet Link: http://www.ti.com/lit/ds/symlink/ne555.pdf; Height: 1.75mm; Mouser Part Number: 595-NE555D; Mouser Price/Stock: https://www.mouser.co.uk/ProductDetail/Texas-Instruments/NE555D/?qs=gb35HGp1gQIV8t3Z88o0WA%3D%3D; Arrow Part Number: NE555D; Arrow Price/Stock: https://www.arrow.com/en/products/ne555d/texas-instruments
footprint SOIC127P600X175-8N
pins: 1 GND, 2 TRIG, 3 OUT, 4 RESET, 5 CONT, 6 THRES, 7 DISCH, 8 VCC

## PowerPad
designator P?  (value not drawn)
footprint POWER_PAD
pins: 1

## PTS_647_SK38_SMTR2_LFS
designator S?
Switch; Manufacturer_Name: C & K COMPONENTS; Manufacturer_Part_Number: PTS 647 SK38 SMTR2 LFS; Datasheet Link: https://dznh3ojzb2azq.cloudfront.net/products/Tactile/PTS647/documents/datasheet.pdf; Height: 3.8mm; Arrow Part Number: PTS 647 SK38 SMTR2 LFS; Arrow Price/Stock: https://www.arrow.com/en/products/pts-647-sk38-smtr2-lfs/ck
footprint PTS647SK38SMTR2LFS
pins: 1 NO_1, 2 NO_2, 3 COM_1, 4 COM_2

## RCL12254K70FKEG
designator R?
Resistor; Manufacturer_Name: Vishay; Manufacturer_Part_Number: RCL12254K70FKEG; Datasheet Link: https://componentsearchengine.com/Datasheets/1/RCL12254K70FKEG.pdf; Height: 0.8mm; Mouser Part Number: 71-RCL12254K70FKEG; Mouser Price/Stock: https://www.mouser.com/Search/Refine.aspx?Keyword=71-RCL12254K70FKEG
footprint RESC3263X80N
pins: 1, 2

## RT0805BRD075K05L
designator R?, comment 5.05k
Resistor; Manufacturer_Name: Yageo; Manufacturer_Part_Number: RT0805BRD075K05L; Datasheet Link: https://www.mouser.at/datasheet/2/447/PYu-RT_1-to-0.01_RoHS_L_11-1669912.pdf; Height: 0.7mm; Mouser Part Number: 603-RT0805BRD075K05L; Mouser Price/Stock: https://www.mouser.at/ProductDetail/Yageo/RT0805BRD075K05L?qs=bQfrgN9vNvwObDVrZ%2FDM5w%3D%3D
footprint R0805
pins: 1, 2

## RT0805FRE071KL
designator R?, comment 1k
Resistor; Manufacturer_Name: YAGEO (PHYCOMP); Manufacturer_Part_Number: RT0805FRE071KL; Datasheet Link: https://componentsearchengine.com/Datasheets/2/RT0805FRE071KL.pdf; Height: 0.6mm; Mouser Part Number: 603-RT0805FRE071KL; Mouser Price/Stock: https://www.mouser.co.uk/ProductDetail/Yageo/RT0805FRE071KL?qs=8cPjvKtxWv4wlgQ3qHu8dQ%3D%3D
footprint RESC2012X60N
pins: 1, 2

## RT0805FRE0710KL
designator R?, comment 10k
Resistor; Manufacturer_Name: YAGEO (PHYCOMP); Manufacturer_Part_Number: RT0805FRE0710KL; Datasheet Link: https://www.yageo.com/upload/media/product/productsearch/datasheet/rchip/PYu-RT_1-to-0.01_RoHS_L_11.pdf; Height: 0.6mm; Arrow Part Number: RT0805FRE0710KL; Arrow Price/Stock: https://www.arrow.com/en/products/rt0805fre-0710kl/yageo; Mouser Part Number: 603-RT0805FRE0710KL; Mouser Price/Stock: https://www.mouser.co.uk/ProductDetail/Yageo/RT0805FRE0710KL?qs=Fz%2FrpjPuTcHcdP0eDiVtNg%3D%3D
footprint RESC2012X60N
pins: 1, 2

## Solder Bridge
designator SB?
Solder Bridge; Internal_Part_Number: MCD-00071; Part_Type: Mechanical; Manufacturer_Part_Number: RC0603JR-070RL; Manufacturer: YAGEO; Provided_By: SUBCO; ECCN_US: n/a; ECCN_EU: n/a; Status: Released; Package: SB0603; ComponentLink1Description: Datasheet; ComponentLink1URL: http://tunmcdsvn.tun.st.com/Component_Datasheet_Library/Trunk/Resistors/Yageo_Resistor_RC0603-series
footprint SOLDER-BRIDGE_R0603-0R
pins: 1, 2

## STM32G474RBT6
designator IC?
Integrated Circuit; Manufacturer_Name: STMicroelectronics; Manufacturer_Part_Number: STM32G474RBT6; Datasheet Link: https://www.mouser.com/datasheet/2/389/stm32g474cb-1600828.pdf; Height: 1.6mm; Mouser Part Number: 511-STM32G474RBT6; Mouser Price/Stock: https://www.mouser.co.uk/ProductDetail/STMicroelectronics/STM32G474RBT6?qs=uwxL4vQweFP0uAZUZXLBhQ%3D%3D
footprint QFP50P1200X1200X160-64N
pins: 1 VBAT, 2 PC13, 3 PC14-OSC32_IN, 4 PC15-OSC32_OUT, 5 PF0-OSC_IN, 6 PF1-OSC_OUT, 7 PG10-NRST, 8 PC0, 9 PC1, 10 PC2, 11 PC3, 12 PA0, 13 PA1, 14 PA2, 15 VSS_1, 16 VDD_1, 17 PA3, 18 PA4, 19 PA5, 20 PA6, 21 PA7, 22 PC4, 23 PC5, 24 PB0, 25 PB1, 26 PB2, 27 VSSA, 28 VREF+, 29 VDDA, 30 PB10, 31 VSS_2, 32 VDD_2, 33 PB11, 34 PB12, 35 PB13, 36 PB14, 37 PB15, 38 PC6, 39 PC7, 40 PC8, 41 PC9, 42 PA8, 43 PA9, 44 PA10, 45 PA11, 46 PA12, 47 VSS_3, 48 VDD_3, 49 PA13, 50 PA14, 51 PA15, 52 PC10, 53 PC11, 54 PC12, 55 PD2, 56 PB3, 57 PB4, 58 PB5, 59 PB6, 60 PB7, 61 PB8-BOOT0, 62 PB9, 63 VSS_4, 64 VDD_4

## UCC27212AQDDARQ1
designator IC?
Integrated Circuit; Manufacturer_Name: Texas Instruments; Manufacturer_Part_Number: UCC27212AQDDARQ1; Datasheet Link: http://www.ti.com/lit/gpn/ucc27212a-q1; Height: 1.7mm; Arrow Part Number: UCC27212AQDDARQ1; Arrow Price/Stock: https://www.arrow.com/en/products/ucc27212aqddarq1/texas-instruments; Mouser Part Number: 595-UCC27212AQDDARQ1; Mouser Price/Stock: https://www.mouser.co.uk/ProductDetail/Texas-Instruments/UCC27212AQDDARQ1?qs=EU6FO9ffTweIJPh4lekvgg%3D%3D
footprint SOIC127P600X170-9N
pins: 1 VDD, 2 HB, 3 HO, 4 HS, 5 HI, 6 LI, 7 VSS, 8 LO, 9 EP

## USBLC6-2SC6
designator IC?
Integrated Circuit; Manufacturer_Name: STMicroelectronics; Manufacturer_Part_Number: USBLC6-2SC6; Datasheet Link: http://www.st.com/st-web-ui/static/active/en/resource/technical/document/datasheet/CD00050750.pdf; Height: 1.45mm; Arrow Part Number: USBLC6-2SC6; Arrow Price/Stock: https://www.arrow.com/en/products/usblc6-2sc6/stmicroelectronics; Mouser Part Number: 511-USBLC6-2SC6; Mouser Price/Stock: https://www.mouser.co.uk/ProductDetail/STMicroelectronics/USBLC6-2SC6?qs=po45yt2pPpu%2FhNIlwQdTlg%3D%3D
footprint SOT95P280X145-6N
pins: 1 I/O1_1, 2 GND, 3 I/O2_1, 4 I/O2_2, 5 VBUS, 6 I/O1_2

## UUX2A470MNL1GS
designator C?
Capacitor Polarised; Manufacturer_Name: Nichicon; Manufacturer_Part_Number: UUX2A470MNL1GS; Datasheet Link: https://componentsearchengine.com/Datasheets/1/UUX2A470MNL1GS.pdf; Height: 10.5mm; Mouser Part Number: 647-UUX2A470MNL1GS; Mouser Price/Stock: https://www.mouser.co.uk/ProductDetail/Nichicon/UUX2A470MNL1GS?qs=jZZh9D7uMhmPZMofMKn2Fg%3D%3D; Arrow Part Number: UUX2A470MNL1GS; Arrow Price/Stock: https://www.arrow.com/en/products/uux2a470mnl1gs/nichicon
footprint CAPAE1030X1050N
pins: 1 +, 2 -

## V8PAM10S-M3_H
designator D?
Schottky Diode; Manufacturer_Name: Vishay; Manufacturer_Part_Number: V8PAM10S-M3/H; Datasheet Link: https://www.vishay.com/docs/87013/v8pam10s.pdf; Height: 1mm; Mouser Part Number: 78-V8PAM10S-M3/H; Mouser Price/Stock: https://www.mouser.co.uk/ProductDetail/Vishay-General-Semiconductor/V8PAM10S-M3-H/?qs=7MVldsJ5Uazp%2FkF6tV7Ktw%3D%3D
footprint V8PAM10SHM3H
pins: 1 K, 2 A

## VJ0603Y104JXJAC
designator C?, comment 100nF
Capacitor; Manufacturer_Name: Vishay; Manufacturer_Part_Number: VJ0603Y104JXJAC; Datasheet Link: http://www.vishay.com/docs/45226/vj31xrohsautomlcc.pdf; Height: 0.97mm; Mouser Part Number: 77-VJ0603Y104JXJAC; Mouser Price/Stock: https://www.mouser.com/Search/Refine.aspx?Keyword=77-VJ0603Y104JXJAC
footprint CAPC1608X97N
pins: 1, 2

## VSSAF3M10-M3_H
designator D?
Schottky Diode; Manufacturer_Name: Vishay; Manufacturer_Part_Number: VSSAF3M10-M3/H; Datasheet Link: https://www.vishay.com/docs/87507/vssaf3m10.pdf; Height: 1mm; Arrow Part Number: VSSAF3M10-M3/H; Arrow Price/Stock: https://www.arrow.com/en/products/vssaf3m10-m3h/vishay; Mouser Part Number: 78-VSSAF3M10-M3/H; Mouser Price/Stock: https://www.mouser.com/Search/Refine.aspx?Keyword=78-VSSAF3M10-M3%2FH
footprint SODFL5226X100N
pins: 1 K, 2 A

## WSK1216L5000FEA
designator R?
Resistor; Manufacturer_Name: Vishay; Manufacturer_Part_Number: WSK1216L5000FEA; Datasheet Link: http://www.vishay.com/docs/30189/wsk1216.pdf; Height: 1.9mm
footprint WSK12161L000FEA
pins: 1, 2, 3, 4

## WSL2726L5000FEB
designator R?
Resistor; Manufacturer_Name: Vishay; Manufacturer_Part_Number: WSL2726L5000FEB; Datasheet Link: http://www.vishay.com/docs/31057/wslhigh.pdf; Height: 4.01mm; Mouser Part Number: 71-WSL2726L5000FEB; Mouser Price/Stock: https://www.mouser.com/Search/Refine.aspx?Keyword=71-WSL2726L5000FEB; Arrow Part Number: WSL2726L5000FEB; Arrow Price/Stock: https://www.arrow.com/en/products/wsl2726l5000feb/vishay
footprint WSL2726L5000FEB
pins: 1, 2, 3, 4

## YFZVFHTR10B
designator Z?
Zener Diode; Manufacturer_Name: ROHM Semiconductor; Manufacturer_Part_Number: YFZVFHTR10B; Datasheet Link: http://rohmfs.rohm.com/en/products/databook/datasheet/discrete/diode/zener/yfzvfhtr10b-e.pdf; Height: 0.8mm; Mouser Part Number: 755-YFZVFHTR10B; Mouser Price/Stock: https://www.mouser.com/Search/Refine.aspx?Keyword=755-YFZVFHTR10B
footprint TDZVTR51
pins: 1 K, 2 A